# Altium footprint library Sensor_Humidity.PcbLib: 1 footprints
Each footprint in its own frame and in the unit in brackets; x right, y up, seen from the top. Pads: shape width x height; smd on the part's side, far side on the other; paste and mask are expansions set on the pad; w line width, h text height; cw(c..) or ccw(c..) is an arc to the next point about the centre after c.
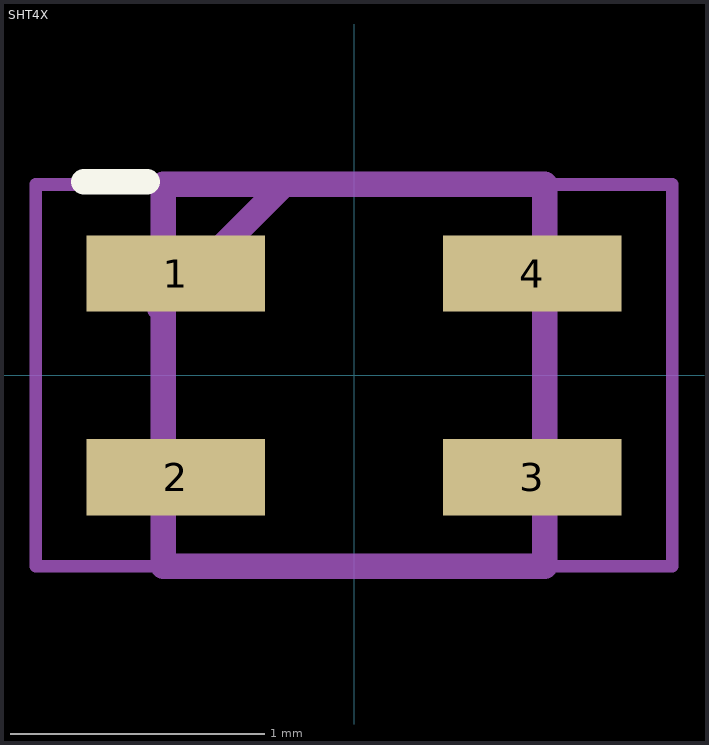
[diagram p0: the footprint, top view; thin cyan lines are the x and y axes]

## SHT4X [mm]
height 0.7
pads (4):
  rect 0.7x0.3 smd mask+0.05: 1(-0.7,0.4) 2(-0.7,-0.4) 3(0.7,-0.4) 4(0.7,0.4)
Top Overlay:
  lines w0.1: -1.062,0.761 -0.812,0.761
Mechanical 13:
  lines w0.1: -0.763,0.262 -0.275,0.75 ; -0.75,-0.75 -0.75,0.75 0.75,0.75 0.75,-0.75 -0.75,-0.75
Mechanical 15:
  lines w0.05: -1.25,-0.75 -1.25,0.75 1.25,0.75 1.25,-0.75 -1.25,-0.75
3D body "SHT45-AD1B-R2--3DModel-STEP-369182.STEP": height 0.69, standoff 0, extent -0.751,-0.751 0.751,0.751